# EAGLE library part AVR_SPI_PRG_6 (library BaseApp)
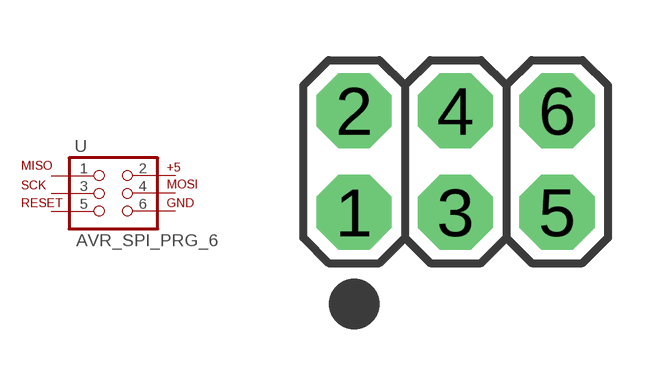
[diagram p103: symbol with the pads of 2X3; footprint 2X3]

Designator prefix -

## AVR_SPI_PRG_6  [2X3]
1  1  pas
2  2  pas
3  3  pas
4  4  pas
5  5  pas
6  6  pas

## Footprint 2X3 (pad centres in mm)
drill 1.016 pad 1.88 octagon: 1 0,0; 2 0,2.54; 3 2.54,0; 4 2.54,2.54; 5 5.08,0; 6 5.08,2.54